# Altium schematic symbol library Russian.SchLib: 1 symbol
Pins are listed as number, name and electrical type; pins without a type are passive.

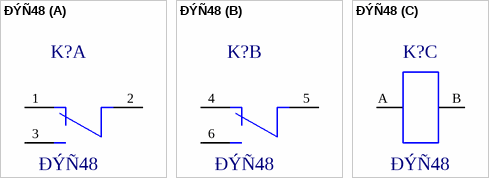
[diagram p0: symbol ÐÝÑ48]

## ÐÝÑ48
designator K?
ValueSch: ÐÝÑ48
part A pins: 1, 2, 3
part B pins: 4, 5, 6
part C pins: A (power), B (power)